# Altium footprint library HZK_IC.PcbLib: 20 footprints (part 1 of 2)
Each footprint in its own frame and in the unit in brackets; x right, y up, seen from the top. Pads: shape width x height; smd on the part's side, far side on the other; paste and mask are expansions set on the pad; w line width, h text height; cw(c..) or ccw(c..) is an arc to the next point about the centre after c.
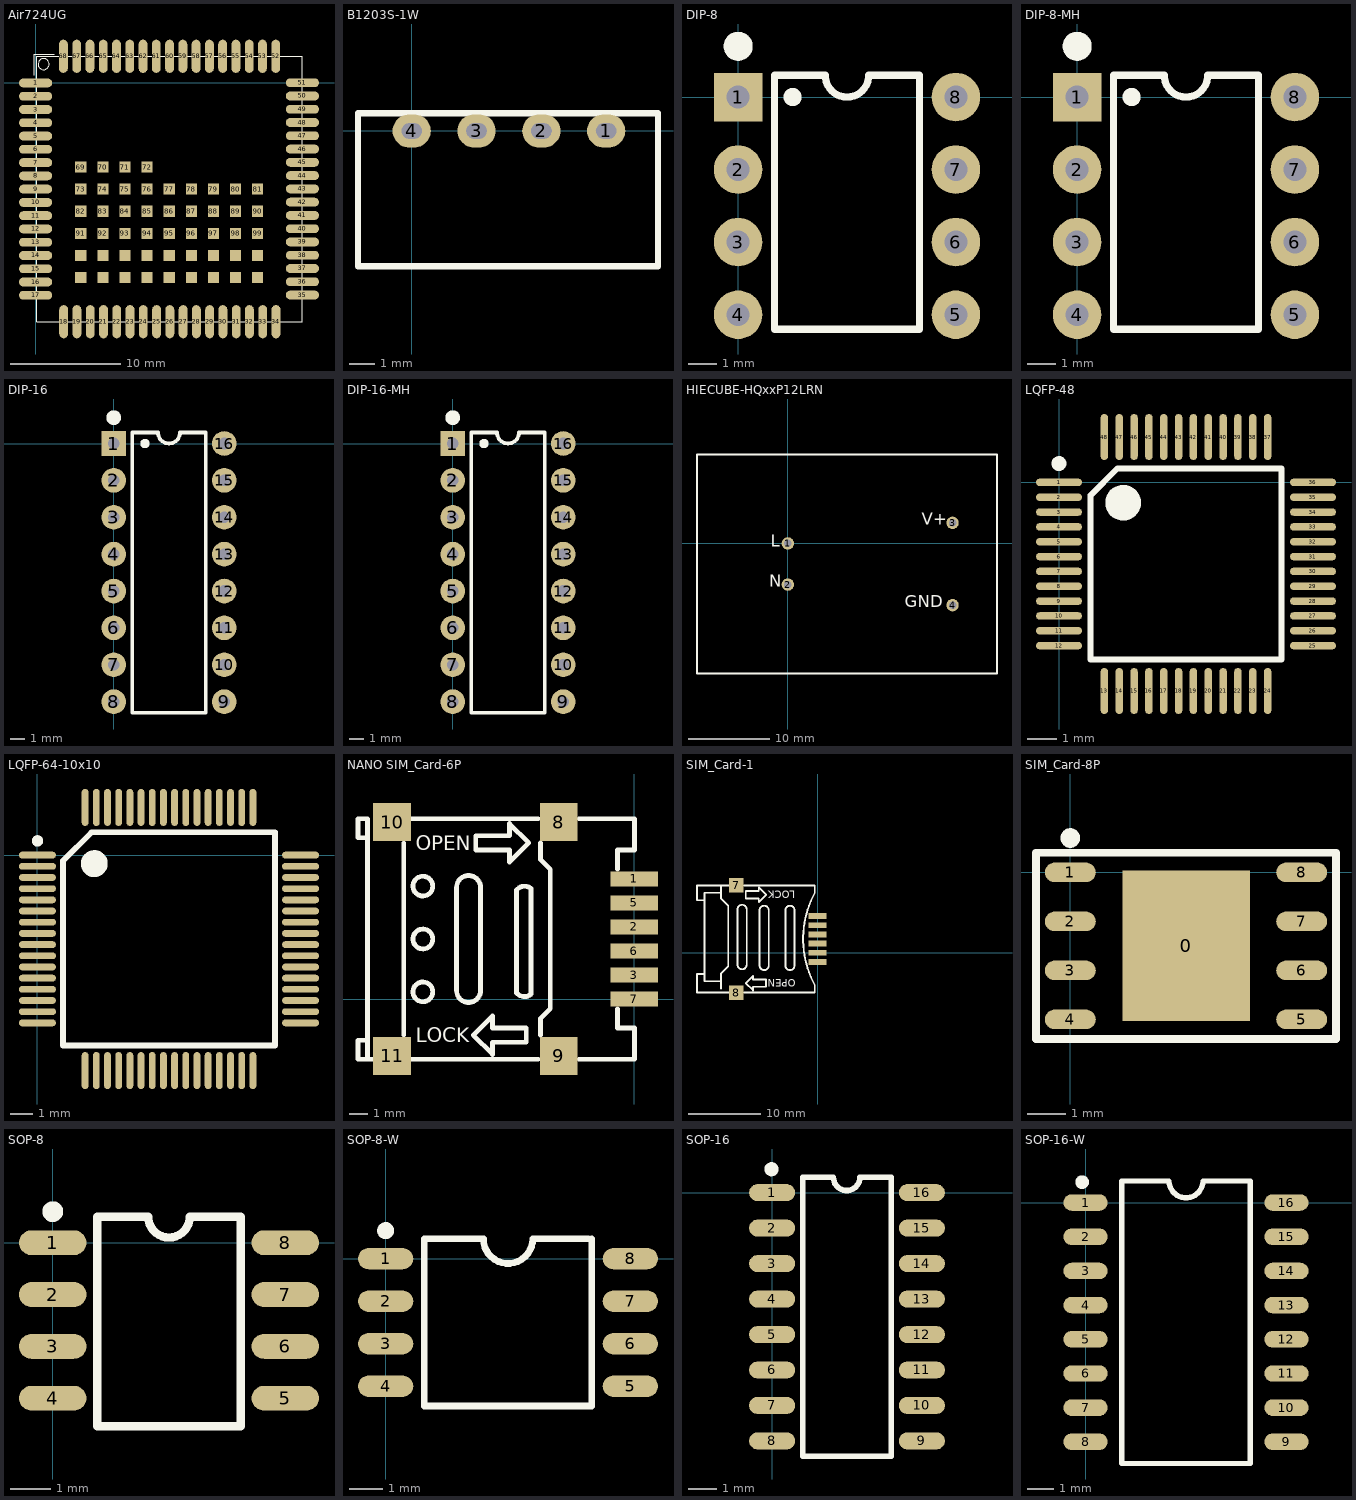
[diagram p0: the footprints below, top view; thin cyan lines are the x and y axes]

## Air724UG [mm]
pads (117):
  oval 2.998x0.8 smd: 1(0,0) 2(0,-1.2) 3(0,-2.4) 4(0,-3.6) 5(0,-4.8) 6(0,-6) 7(0,-7.2) 8(0,-8.4) 9(0,-9.6) 10(0,-10.8) 11(0,-12) 12(0,-13.2) 13(0,-14.4) 14(0,-15.6) 15(0,-16.8) 16(0,-18) 17(0,-19.2) 35(24.13,-19.177) 36(24.13,-17.977) 37(24.13,-16.777) 38(24.13,-15.577) 39(24.13,-14.377) 40(24.13,-13.177) 41(24.13,-11.977) 42(24.13,-10.777) 43(24.13,-9.577) 44(24.13,-8.377) 45(24.13,-7.177) 46(24.13,-5.977) 47(24.13,-4.777) 48(24.13,-3.577) 49(24.13,-2.377) 50(24.13,-1.177) 51(24.13,0.023)
  oval 0.8x2.998 smd: 18(2.54,-21.59) 19(3.74,-21.59) 20(4.94,-21.59) 21(6.14,-21.59) 22(7.34,-21.59) 23(8.54,-21.59) 24(9.74,-21.59) 25(10.94,-21.59) 26(12.14,-21.59) 27(13.34,-21.59) 28(14.54,-21.59) 29(15.74,-21.59) 30(16.94,-21.59) 31(18.14,-21.59) 32(19.34,-21.59) 33(20.54,-21.59) 34(21.74,-21.59) 52(21.717,2.413) 53(20.517,2.413) 54(19.317,2.413) 55(18.117,2.413) 56(16.917,2.413) 57(15.717,2.413) 58(14.517,2.413) 59(13.317,2.413) 60(12.117,2.413) 61(10.917,2.413) 62(9.717,2.413) 63(8.517,2.413) 64(7.317,2.413) 65(6.117,2.413) 66(4.917,2.413) 67(3.717,2.413) 68(2.517,2.413)
  rect 1x1 smd: 69(4.085,-7.6) 70(6.085,-7.6) 71(8.085,-7.6) 72(10.085,-7.6) 73(4.085,-9.6) 74(6.085,-9.6) 75(8.085,-9.6) 76(10.085,-9.6) 77(12.085,-9.6) 78(14.085,-9.6) 79(16.085,-9.6) 80(18.085,-9.6) 81(20.085,-9.6) 82(4.085,-11.6) 83(6.085,-11.6) 84(8.085,-11.6) 85(10.085,-11.6) 86(12.085,-11.6) 87(14.085,-11.6) 88(16.085,-11.6) 89(18.085,-11.6) 90(20.085,-11.6) 91(4.085,-13.6) 92(6.085,-13.6) 93(8.085,-13.6) 94(10.085,-13.6) 95(12.085,-13.6) 96(14.085,-13.6) 97(16.085,-13.6) 98(18.085,-13.6) 99(20.085,-13.6) 100(4.085,-15.6) 101(6.085,-15.6) 102(8.085,-15.6) 103(10.085,-15.6) 104(12.085,-15.6) 105(14.085,-15.6) 106(16.085,-15.6) 107(18.085,-15.6) 108(20.085,-15.6) 109(4.085,-17.6) 110(6.085,-17.6) 111(8.085,-17.6) 112(10.085,-17.6) 113(12.085,-17.6) 114(14.085,-17.6) 115(16.085,-17.6) 116(18.085,-17.6) 117(20.085,-17.6)
Top Overlay:
  lines w0.1: -0.115,0.7 -0.115,2.6 1.685,2.6 ; 0.085,-21.6 0.085,2.4 24.085,2.4 ; 0.127,-21.59 24.127,-21.59 24.127,2.41 ; 0.73,1.2 cw(c0.735,1.7) 0.735,1.2

## B1203S-1W [mm] "DC-DC隔离电源模块"
pads (4):
  oval 1.5x1.3 hole 0.6 slot 0.8 at 0 deg: 1(7.62,0) 2(5.08,0) 3(2.54,0) 4(0,0)
Top Overlay:
  lines w0.254: -2.105,-5.3 9.65,-5.3 9.65,0.7 -2.105,0.7 -2.105,-5.3

## DIP-8 [mm] "9.4*7.6*3.8(长宽高)"
pads (8):
  rect 1.7x1.7 hole 0.8: 1(0,0)
  round 1.7 hole 0.8: 2(0,-2.54) 3(0,-5.08) 4(0,-7.62) 5(7.62,-7.62) 6(7.62,-5.08) 7(7.62,-2.54) 8(7.62,0)
Top Overlay:
  circle w0.508: c0,1.778 r0.254
  circle w0.381: c1.905,0 r0.127
  lines w0.254: 1.27,-8.128 6.35,-8.128 6.35,0.762 4.572,0.762 cw(c3.81,0.762) 3.81,0 cw(c3.81,0.762) 3.048,0.762 1.27,0.762 1.27,-8.128
3D body "DIP8-300.STEP": height 4.5, standoff -3.2, extent -0.115,-8.51 7.735,0.89

## DIP-8-MH [mm] "带底座 9.4*7.6*3"
pads (8):
  rect 1.7x1.7 hole 0.8: 1(0,0)
  round 1.7 hole 0.8: 2(0,-2.54) 3(0,-5.08) 4(0,-7.62) 5(7.62,-7.62) 6(7.62,-5.08) 7(7.62,-2.54) 8(7.62,0)
Top Overlay:
  circle w0.381: c1.905,0 r0.127
  circle w0.508: c0,1.778 r0.254
  lines w0.254: 1.27,-8.128 6.35,-8.128 6.35,0.762 4.572,0.762 cw(c3.81,0.762) 3.81,0 cw(c3.81,0.762) 3.048,0.762 1.27,0.762 1.27,-8.128
3D body "DIP-MH8-300.STEP": height 4.95, standoff -2.95, extent -1.19,-9 8.81,1.38
3D body "DIP8-300.STEP": height 7.7, standoff 0, extent -0.115,-8.51 7.735,0.89

## DIP-16 [mm] "19.3*7.6*3.8(长?"
pads (16):
  rect 1.7x1.7 hole 0.8: 1(0,0)
  round 1.7 hole 0.8: 2(0,-2.54) 3(0,-5.08) 4(0,-7.62) 5(0,-10.16) 6(0,-12.7) 7(0,-15.24) 8(0,-17.78) 9(7.62,-17.78) 10(7.62,-15.24) 11(7.62,-12.7) 12(7.62,-10.16) 13(7.62,-7.62) 14(7.62,-5.08) 15(7.62,-2.54) 16(7.62,0)
Top Overlay:
  circle w0.381: c2.159,0 r0.127
  circle w0.508: c0,1.778 r0.254
  lines w0.254: 1.27,-18.542 6.35,-18.542 6.35,0.762 4.572,0.762 cw(c3.81,0.762) 3.81,0 cw(c3.81,0.762) 3.048,0.762 1.27,0.762 1.27,-18.542
3D body "DIP16-300.STEP": height 4.3, standoff -3.3, extent -0.21,-18.54 7.83,0.76

## DIP-16-MH [mm] "带底座 19.3*7.6*3"
pads (16):
  rect 1.7x1.7 hole 0.8: 1(0,0)
  round 1.7 hole 0.8: 2(0,-2.54) 3(0,-5.08) 4(0,-7.62) 5(0,-10.16) 6(0,-12.7) 7(0,-15.24) 8(0,-17.78) 9(7.62,-17.78) 10(7.62,-15.24) 11(7.62,-12.7) 12(7.62,-10.16) 13(7.62,-7.62) 14(7.62,-5.08) 15(7.62,-2.54) 16(7.62,0)
Top Overlay:
  circle w0.381: c2.159,0 r0.127
  circle w0.508: c0,1.778 r0.254
  lines w0.254: 1.27,-18.542 6.35,-18.542 6.35,0.762 4.572,0.762 cw(c3.81,0.762) 3.81,0 cw(c3.81,0.762) 3.048,0.762 1.27,0.762 1.27,-18.542
3D body "DIP16-300.STEP": height 7.5, standoff -0.1, extent -0.21,-18.54 7.83,0.76
3D body "DIP-MH16-300.STEP": height 5.25, standoff -2.95, extent -1.171,-19.14 8.81,1.36

## HIECUBE-HQxxP12LRN [mil]
pads (4):
  round 60 hole 36: 1(0,0) 2(0,-200) 3(800,100) 4(800,-300)
Top Overlay:
  lines w10: -440.94,-631.5 -440.94,431.5 1015.75,431.5 1015.75,-631.5 -440.94,-631.5
  text "GND" at 567.33,-330.16 h100
  text "V+" at 650,70 h100
  text "N" at -90,-230 h100
  text "L" at -82.67,-35.16 h100

## LQFP-48 [mm]
height 1.2
pads (48):
  oval 1.55x0.25 smd: 1(0,0) 2(0,-0.5) 3(0,-1) 4(0,-1.5) 5(0,-2) 6(0,-2.5) 7(0,-3) 8(0,-3.5) 9(0,-4) 10(0,-4.5) 11(0,-5) 12(0,-5.5) 25(8.558,-5.5) 26(8.558,-5) 27(8.558,-4.5) 28(8.558,-4) 29(8.558,-3.5) 30(8.558,-3) 31(8.558,-2.5) 32(8.558,-2) 33(8.558,-1.5) 34(8.558,-1) 35(8.558,-0.5) 36(8.558,0)
  oval 0.25x1.55 smd: 13(1.529,-7.029) 14(2.029,-7.029) 15(2.529,-7.029) 16(3.029,-7.029) 17(3.529,-7.029) 18(4.029,-7.029) 19(4.529,-7.029) 20(5.029,-7.029) 21(5.529,-7.029) 22(6.029,-7.029) 23(6.529,-7.029) 24(7.029,-7.029) 37(7.029,1.529) 38(6.529,1.529) 39(6.029,1.529) 40(5.529,1.529) 41(5.029,1.529) 42(4.529,1.529) 43(4.029,1.529) 44(3.529,1.529) 45(3.029,1.529) 46(2.529,1.529) 47(2.029,1.529) 48(1.529,1.529)
Top Overlay:
  circle w0.6: c2.159,-0.686 r0.3
  circle w0.25: c0,0.635 r0.125
  lines w0.2: 1.065,-5.964 1.065,-0.434 1.968,0.469 7.493,0.469 7.493,-5.964 1.065,-5.964
3D body "TQFP-48.STEP": height 1.42, standoff -0.04, extent -0.221,-7.25 8.779,1.75

## LQFP-64-10x10 [mil]
pads (64):
  oval 65x12 smd: 1(0,0) 2(0,-19.68) 3(0,-39.37) 4(0,-59.06) 5(0,-78.74) 6(0,-98.43) 7(0,-118.11) 8(0,-137.8) 9(0,-157.48) 10(0,-177.17) 11(0,-196.85) 12(0,-216.54) 13(0,-236.22) 14(0,-255.91) 15(0,-275.59) 16(0,-295.28) 33(463.04,-295.28) 34(463.04,-275.59) 35(463.04,-255.91) 36(463.04,-236.22) 37(463.04,-216.54) 38(463.04,-196.85) 39(463.04,-177.17) 40(463.04,-157.48) 41(463.04,-137.8) 42(463.04,-118.11) 43(463.04,-98.43) 44(463.04,-78.74) 45(463.04,-59.06) 46(463.04,-39.37) 47(463.04,-19.68) 48(463.04,0)
  oval 12x65 smd: 17(83.88,-379.16) 18(103.57,-379.16) 19(123.25,-379.16) 20(142.94,-379.16) 21(162.62,-379.16) 22(182.31,-379.16) 23(201.99,-379.16) 24(221.68,-379.16) 25(241.36,-379.16) 26(261.05,-379.16) 27(280.73,-379.16) 28(300.42,-379.16) 29(320.1,-379.16) 30(339.79,-379.16) 31(359.47,-379.16) 32(379.16,-379.16) 49(379.16,83.88) 50(359.47,83.88) 51(339.79,83.88) 52(320.1,83.88) 53(300.42,83.88) 54(280.73,83.88) 55(261.05,83.88) 56(241.36,83.88) 57(221.68,83.88) 58(201.99,83.88) 59(182.31,83.88) 60(162.62,83.88) 61(142.94,83.88) 62(123.25,83.88) 63(103.57,83.88) 64(83.88,83.88)
Top Overlay:
  circle w10: c0,25 r5
  circle w23.62: c100,-15 r11.81
  lines w10: 45,-335 45,-10 95,40 418.04,40 418.04,-335 45,-335
3D body "LQFP64-10x10.STEP": height 57.09, standoff -0.2, extent -4.81,-383.96 467.86,88.7

## NANO SIM_Card-6P [mm] "翻盖NANO SIM卡6脚卡座"
pads (10):
  rect 2.499x0.8 smd: 1(0,6.35) 2(0,3.81) 3(0,1.27) 5(0,5.08) 6(0,2.54) 7(0,0)
  rect 1.999x1.999 smd: 8(-4,9.35) 9(-4,-3) 10(-12.8,9.35) 11(-12.8,-3)
Top Overlay:
  circle w0.254: c-11.176,5.969 r0.524
  circle w0.254: c-11.176,3.175 r0.524
  circle w0.254: c-11.176,0.381 r0.524
  lines w0.254: -14.097,-3.175 -14.097,9.525 -14.605,9.525 -14.605,8.529 -14.097,8.529 -14.097,-2.159 ; -14.097,-2.179 -14.605,-2.179 -14.605,-3.175 -13.843,-3.175 ; -12.192,-1.905 -12.192,8.255 ; -11.811,-3.175 -5.08,-3.175 ; -11.811,9.525 -5.08,9.525 ; -4.953,-1.905 -4.953,-1.016 -4.445,-0.508 -4.445,6.858 -4.953,7.366 -4.953,8.255 ; -2.921,-3.175 0,-3.175 0,-1.524 -0.889,-1.524 -0.889,-0.508 ; -2.921,9.525 0,9.525 0,7.874 -0.889,7.874 -0.889,6.858 ; -9.398,0.455 ccw(c-8.763,0.455) -8.128,0.455 -8.128,5.895 ccw(c-8.763,5.895) -9.398,5.895 -9.398,0.455 ; -8.509,-1.905 -7.493,-0.889 -7.493,-1.524 -5.715,-1.524 -5.715,-2.286 -7.493,-2.286 -7.493,-2.921 -8.509,-1.905 ; -8.382,7.874 -6.604,7.874 -6.604,7.239 -5.588,8.255 -6.604,9.271 -6.604,8.636 -8.382,8.636 -8.382,7.874 ; -6.223,0.328 ccw(c-5.805,0.672) -5.461,0.254 -5.461,5.842 ccw(c-5.805,5.424) -6.223,5.768 -6.223,0.328
  text "LOCK" at -11.557,-2.286 h0.76
  text "OPEN" at -11.557,7.874 h0.76
3D body "NANO SIM_Card.step": height 1.43, standoff -0.02, extent -13.705,-3 0.295,9.4

## SIM_Card-1 [mil] "SIM卡6脚卡座"
pads (8):
  rect 98.4x31.5 smd: 1(0,0) 2(0,100) 3(0,200) 4(0,-50) 5(0,50) 6(0,150)
  rect 78.7x78.7 smd: 7(-440.95,366.7) 8(-440.95,-216.7)
Top Overlay:
  lines w10: -525,-194.2 -525,-114.2 -485,-74.2 -485,255.8 -525,295.8 -525,365.8 ; -525,-154.2 -615,-154.2 -615,325.8 -525,325.8 ; -484.73,-215.85 -655,-215.85 -655,-114.2 -615,-114.2 -615,285.8 -655,285.8 -655,365.8 -484.73,365.8 ; -399.6,-215.85 -15,-215.85 ; -399.6,365.8 -15,365.8 -15,325.85 ccw(c448,75) -15,-175.85 -15,-215.8 ; -435,-64.2 ccw(c-410,-64.2) -385,-64.2 -385,235.8 ccw(c-410,235.8) -435,235.8 -435,-64.2 ; -390,-164.2 -350,-204.2 -350,-184.2 -280,-184.2 -280,-174.2 -280,-144.2 -350,-144.2 -350,-124.2 -390,-164.2 ; -390,295.8 -320,295.8 -320,275.8 -280,315.8 -320,355.8 -320,335.8 -390,335.8 -390,325.8 -390,295.8 ; -315,-69.2 ccw(c-290,-69.2) -265,-69.2 -265,230.8 ccw(c-290,230.8) -315,230.8 -315,-69.2 ; -175,-69.2 ccw(c-150,-69.2) -125,-69.2 -125,230.8 ccw(c-150,230.8) -175,230.8 -175,-69.2
  text "LOCK" at -122.6,336.99 h39.37
  text "OPEN" at -118.5,-144.51 h39.37

## SIM_Card-8P [mil] "工业贴片SIM卡"
pads (9):
  rect 129.92x153.54 smd: 0(118.08,-75)
  oval 52x20 smd: 1(0,0) 2(0,-50) 3(0,-100) 4(0,-150) 5(236,-150) 6(236,-100) 7(236,-50) 8(236,0)
Top Overlay:
  circle w10: c0,35 r5
  lines w8: -35,-170 271,-170 271,20 -35,20 -35,-170
3D body "User Library-SON-8-1.step": height 39.37, standoff -0.39, extent -2.01,-173.43 235,23.43

## SOP-8 [mil]
pads (8):
  oval 65x24 smd: 1(0,0) 2(0,-50) 3(0,-100) 4(0,-150) 5(224.41,-150) 6(224.41,-100) 7(224.41,-50) 8(224.41,0)
Top Overlay:
  circle w10: c0,30 r5
  lines w7.87: 43,25 43,-177 181.41,-177 181.41,25
  lines w8: 43,25 92.2,25 ccw(c112.2,25) 132.2,25 181.41,25
3D body "User Library-sop-8.STEP": height 62.99, standoff 0, extent -6.87,-173.9 231,23.74

## SOP-8-W [mil]
pads (8):
  oval 65x25 smd: 1(0,0) 2(0,-50) 3(0,-100) 4(0,-150) 5(287.87,-150) 6(287.87,-100) 7(287.87,-50) 8(287.87,0)
Top Overlay:
  circle w10: c0,33 r5
  lines w8: 238.43,23.43 173,23.43 cw(c144,23.43) 115,23.43 45.51,23.43 45.51,-173.43 242.36,-173.43 242.36,23.43
3D body "SOIC8_Wide_5mmx5mm.step": height 68.7, standoff -0.2, extent -15.57,-182.48 303.39,32.48

## SOP-16 [mil]
height 104.33
pads (16):
  oval 65x24 smd: 1(0,0) 2(0,-50) 3(0,-100) 4(0,-150) 5(0,-200) 6(0,-250) 7(0,-300) 8(0,-350) 9(211,-350) 10(211,-300) 11(211,-250) 12(211,-200) 13(211,-150) 14(211,-100) 15(211,-50) 16(211,0)
Top Overlay:
  circle w10: c-1,33 r5
  lines w7.87: 86,21.85 43,21.85 43,-371.85 168,-371.85 168,21.85 123.68,21.85 ; 86.32,21.72 ccw(c105,21.68) 123.68,21.72
3D body "SO-16.STEP": height 57, standoff 0, extent -10,-371.5 222.49,21.5

## SOP-16-W [mil]
height 104.33
pads (16):
  oval 65x24 smd: 1(0,0) 2(0,-50) 3(0,-100) 4(0,-150) 5(0,-200) 6(0,-250) 7(0,-300) 8(0,-350) 9(294.02,-350) 10(294.02,-300) 11(294.02,-250) 12(294.02,-200) 13(294.02,-150) 14(294.02,-100) 15(294.02,-50) 16(294.02,0)
Top Overlay:
  circle w10: c-5,30 r5
  lines w7.87: 53.15,-381.69 53.15,31.69 122.2,31.69 ccw(c147.01,31.69) 171.81,31.69 240.87,31.69 240.87,-381.69 53.15,-381.69
3D body "SOP16.STEP": height 77.17, standoff -1.57, extent -8.91,-375.78 302.94,25.79